# Altium integrated library Lattice CPLD ispXPLD 5000MX.IntLib: 156 symbols (part 11 of 46)
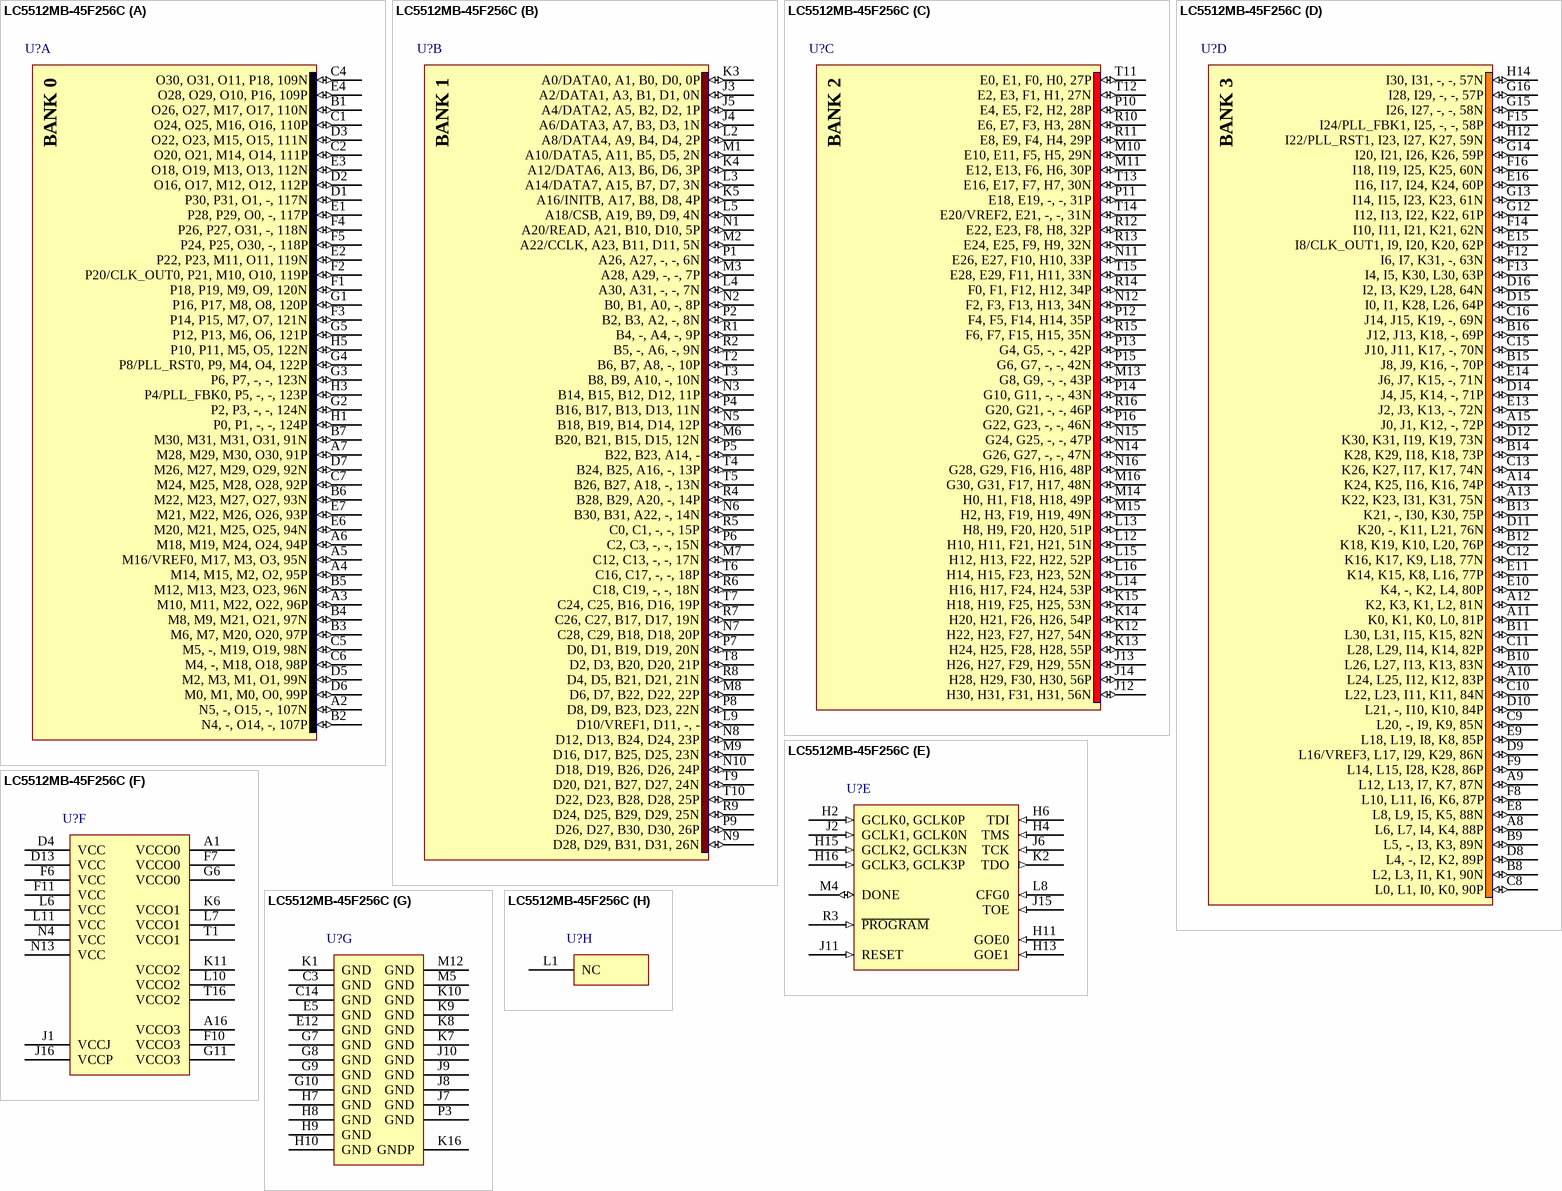
[diagram p195: symbol LC5512MB-45F256C]

## LC5512MB-45F256C
designator U?
ispXPLD 5512M eXpanded PLD: 2.5 V, 193 User I/Os, 256-Ball fpBGA, Speed 4.5 ns, Commercial Grade; Published: 17-Dec-2003; LatestRevisionDate: 30-Mar-2007; LatestRevisionNote: Banks placed in parts.; DatasheetVersion: ver12.2, Mar-2006; PackageVersion: ver01.2 Feb-2007; PackageReference: fpBGA256; Publisher: Altium Limited; PackageDescription: 256-Ball Fine Pitch Ball Grid Array (fpBGA256); Code_IPC: BGA100P16X16-256; ComponentLink1Description: Manufacturer Link; ComponentLink1URL: http://www.latticesemi.com/products/cpld/xpld/index.cfm; ComponentLink2Description: Datasheet; ComponentLink2URL: http://www.latticesemi.com/lit/docs/datasheets/cpld/5kmx.pdf
footprint fpBGA256 (BGA, 256-Leads, Body 17x17mm, Pitch 1mm)
3D model ispXPLD5512MB-fpBGA256 (256-Ball Fine Pitch Ball Grid Array (fpBGA256))
part A pins: A2 N5, -, O15, -, 107N (io) "General purpose I/O.", A3 M10, M11, M22, O22, 96P (io) "General purpose I/O.", A4 M14, M15, M2, O2, 95P (io) "General purpose I/O.", A5 M16/VREF0, M17, M3, O3, 95N (io) "Dual-purpose pin that is general I/O or Defines I/O bank reference voltage.", A6 M18, M19, M24, O24, 94P (io) "General purpose I/O.", A7 M28, M29, M30, O30, 91P (io) "General purpose I/O.", B1 O26, O27, M17, O17, 110N (io) "General purpose I/O.", B2 N4, -, O14, -, 107P (io) "General purpose I/O.", B3 M6, M7, M20, O20, 97P (io) "General purpose I/O.", B4 M8, M9, M21, O21, 97N (io) "General purpose I/O.", B5 M12, M13, M23, O23, 96N (io) "General purpose I/O.", B6 M22, M23, M27, O27, 93N (io) "General purpose I/O.", B7 M30, M31, M31, O31, 91N (io) "General purpose I/O.", C1 O24, O25, M16, O16, 110P (io) "General purpose I/O.", C2 O20, O21, M14, O14, 111P (io) "General purpose I/O.", C4 O30, O31, O11, P18, 109N (io) "General purpose I/O.", C5 M5, -, M19, O19, 98N (io) "General purpose I/O.", C6 M4, -, M18, O18, 98P (io) "General purpose I/O.", C7 M24, M25, M28, O28, 92P (io) "General purpose I/O.", D1 P30, P31, O1, -, 117N (io) "General purpose I/O.", D2 O16, O17, M12, O12, 112P (io) "General purpose I/O.", D3 O22, O23, M15, O15, 111N (io) "General purpose I/O.", D5 M2, M3, M1, O1, 99N (io) "General purpose I/O.", D6 M0, M1, M0, O0, 99P (io) "General purpose I/O.", D7 M26, M27, M29, O29, 92N (io) "General purpose I/O.", E1 P28, P29, O0, -, 117P (io) "General purpose I/O.", E2 P22, P23, M11, O11, 119N (io) "General purpose I/O.", E3 O18, O19, M13, O13, 112N (io) "General purpose I/O.", E4 O28, O29, O10, P16, 109P (io) "General purpose I/O.", E6 M20, M21, M25, O25, 94N (io) "General purpose I/O.", E7 M21, M22, M26, O26, 93P (io) "General purpose I/O.", F1 P18, P19, M9, O9, 120N (io) "General purpose I/O.", F2 P20/CLK_OUT0, P21, M10, O10, 119P (io) "Dual-purpose pin that is general I/O or Optional clock output from PLL0.", F3 P14, P15, M7, O7, 121N (io) "General purpose I/O.", F4 P26, P27, O31, -, 118N (io) "General purpose I/O.", F5 P24, P25, O30, -, 118P (io) "General purpose I/O.", G1 P16, P17, M8, O8, 120P (io) "General purpose I/O.", G2 P2, P3, -, -, 124N (io) "General purpose I/O.", G3 P6, P7, -, -, 123N (io) "General purpose I/O.", G4 P8/PLL_RST0, P9, M4, O4, 122P (io) "Dual-purpose pin that is general I/O or Optional input resets M divider in PLL0.", G5 P12, P13, M6, O6, 121P (io) "General purpose I/O.", H1 P0, P1, -, -, 124P (io) "General purpose I/O.", H3 P4/PLL_FBK0, P5, -, -, 123P (io) "Dual-purpose pin that is general I/O or Optional feeback for PLL0.", H5 P10, P11, M5, O5, 122N (io) "General purpose I/O."
part B pins: J3 A2/DATA1, A3, B1, D1, 0N (io) "Dual-purpose pin that is general I/O or sysCONFIG data pin.", J4 A6/DATA3, A7, B3, D3, 1N (io) "Dual-purpose pin that is general I/O or sysCONFIG data pin.", J5 A4/DATA2, A5, B2, D2, 1P (io) "Dual-purpose pin that is general I/O or sysCONFIG data pin.", K3 A0/DATA0, A1, B0, D0, 0P (io) "Dual-purpose pin that is general I/O or sysCONFIG data pin.", K4 A12/DATA6, A13, B6, D6, 3P (io) "Dual-purpose pin that is general I/O or sysCONFIG data pin.", K5 A16/INITB, A17, B8, D8, 4P (io) "Dual-purpose pin that is general I/O or Indicates status of configuration.", L2 A8/DATA4, A9, B4, D4, 2P (io) "Dual-purpose pin that is general I/O or sysCONFIG data pin.", L3 A14/DATA7, A15, B7, D7, 3N (io) "Dual-purpose pin that is general I/O or sysCONFIG data pin.", L4 A30, A31, -, -, 7N (io) "General purpose I/O.", L5 A18/CSB, A19, B9, D9, 4N (io) "General purpose I/O.", L9 D10/VREF1, D11, -, - (io) "Dual-purpose pin that is general I/O or Defines I/O bank reference voltage.", M1 A10/DATA5, A11, B5, D5, 2N (io) "Dual-purpose pin that is general I/O or sysCONFIG data pin.", M2 A22/CCLK, A23, B11, D11, 5N (io) "General purpose I/O.", M3 A28, A29, -, -, 7P (io) "General purpose I/O.", M6 B20, B21, B15, D15, 12N (io) "General purpose I/O.", M7 C12, C13, -, -, 17N (io) "General purpose I/O.", M8 D6, D7, B22, D22, 22P (io) "General purpose I/O.", M9 D16, D17, B25, D25, 23N (io) "General purpose I/O.", N1 A20/READ, A21, B10, D10, 5P (io) "Dual-purpose pin that is general I/O or Drive high to perform reads from sysCONFIG interface.", N2 B0, B1, A0, -, 8P (io) "General purpose I/O.", N3 B14, B15, B12, D12, 11P (io) "General purpose I/O.", N5 B18, B19, B14, D14, 12P (io) "General purpose I/O.", N6 B30, B31, A22, -, 14N (io) "General purpose I/O.", N7 C28, C29, B18, D18, 20P (io) "General purpose I/O.", N8 D12, D13, B24, D24, 23P (io) "General purpose I/O.", N9 D28, D29, B31, D31, 26N (io) "General purpose I/O.", N10 D18, D19, B26, D26, 24P (io) "General purpose I/O.", P1 A26, A27, -, -, 6N (io) "General purpose I/O.", P2 B2, B3, A2, -, 8N (io) "General purpose I/O.", P4 B16, B17, B13, D13, 11N (io) "General purpose I/O.", P5 B22, B23, A14, - (io) "General purpose I/O.", P6 C2, C3, -, -, 15N (io) "General purpose I/O.", P7 D0, D1, B19, D19, 20N (io) "General purpose I/O.", P8 D8, D9, B23, D23, 22N (io) "General purpose I/O.", P9 D26, D27, B30, D30, 26P (io) "General purpose I/O.", R1 B4, -, A4, -, 9P (io) "General purpose I/O.", R2 B5, -, A6, -, 9N (io) "General purpose I/O.", R4 B28, B29, A20, -, 14P (io) "General purpose I/O.", R5 C0, C1, -, -, 15P (io) "General purpose I/O.", R6 C18, C19, -, -, 18N (io) "General purpose I/O.", R7 C26, C27, B17, D17, 19N (io) "General purpose I/O.", R8 D4, D5, B21, D21, 21N (io) "General purpose I/O.", R9 D24, D25, B29, D29, 25N (io) "General purpose I/O.", T2 B6, B7, A8, -, 10P (io) "General purpose I/O.", T3 B8, B9, A10, -, 10N (io) "General purpose I/O.", T4 B24, B25, A16, -, 13P (io) "General purpose I/O.", T5 B26, B27, A18, -, 13N (io) "General purpose I/O.", T6 C16, C17, -, -, 18P (io) "General purpose I/O.", T7 C24, C25, B16, D16, 19P (io) "General purpose I/O.", T8 D2, D3, B20, D20, 21P (io) "General purpose I/O.", T9 D20, D21, B27, D27, 24N (io) "General purpose I/O.", T10 D22, D23, B28, D28, 25P (io) "General purpose I/O."
part C pins: J12 H30, H31, F31, H31, 56N (io) "General purpose I/O.", J13 H26, H27, F29, H29, 55N (io) "General purpose I/O.", J14 H28, H29, F30, H30, 56P (io) "General purpose I/O.", K12 H22, H23, F27, H27, 54N (io) "General purpose I/O.", K13 H24, H25, F28, H28, 55P (io) "General purpose I/O.", K14 H20, H21, F26, H26, 54P (io) "General purpose I/O.", K15 H18, H19, F25, H25, 53N (io) "General purpose I/O.", L12 H10, H11, F21, H21, 51N (io) "General purpose I/O.", L13 H8, H9, F20, H20, 51P (io) "General purpose I/O.", L14 H16, H17, F24, H24, 53P (io) "General purpose I/O.", L15 H12, H13, F22, H22, 52P (io) "General purpose I/O.", L16 H14, H15, F23, H23, 52N (io) "General purpose I/O.", M10 E10, E11, F5, H5, 29N (io) "General purpose I/O.", M11 E12, E13, F6, H6, 30P (io) "General purpose I/O.", M13 G8, G9, -, -, 43P (io) "General purpose I/O.", M14 H0, H1, F18, H18, 49P (io) "General purpose I/O.", M15 H2, H3, F19, H19, 49N (io) "General purpose I/O.", M16 G30, G31, F17, H17, 48N (io) "General purpose I/O.", N11 E26, E27, F10, H10, 33P (io) "General purpose I/O.", N12 F2, F3, F13, H13, 34N (io) "General purpose I/O.", N14 G26, G27, -, -, 47N (io) "General purpose I/O.", N15 G24, G25, -, -, 47P (io) "General purpose I/O.", N16 G28, G29, F16, H16, 48P (io) "General purpose I/O.", P10 E4, E5, F2, H2, 28P (io) "General purpose I/O.", P11 E18, E19, -, -, 31P (io) "General purpose I/O.", P12 F4, F5, F14, H14, 35P (io) "General purpose I/O.", P13 G4, G5, -, -, 42P (io) "General purpose I/O.", P14 G10, G11, -, -, 43N (io) "General purpose I/O.", P15 G6, G7, -, -, 42N (io) "General purpose I/O.", P16 G22, G23, -, -, 46N (io) "General purpose I/O.", R10 E6, E7, F3, H3, 28N (io) "General purpose I/O.", R11 E8, E9, F4, H4, 29P (io) "General purpose I/O.", R12 E22, E23, F8, H8, 32P (io) "General purpose I/O.", R13 E24, E25, F9, H9, 32N (io) "General purpose I/O.", R14 F0, F1, F12, H12, 34P (io) "General purpose I/O.", R15 F6, F7, F15, H15, 35N (io) "General purpose I/O.", R16 G20, G21, -, -, 46P (io) "General purpose I/O.", T11 E0, E1, F0, H0, 27P (io) "General purpose I/O.", T12 E2, E3, F1, H1, 27N (io) "General purpose I/O.", T13 E16, E17, F7, H7, 30N (io) "General purpose I/O.", T14 E20/VREF2, E21, -, -, 31N (io) "Dual-purpose pin that is general I/O or Defines I/O bank reference voltage.", T15 E28, E29, F11, H11, 33N (io) "General purpose I/O."
part D pins: A8 L6, L7, I4, K4, 88P (io) "General purpose I/O.", A9 L12, L13, I7, K7, 87N (io) "General purpose I/O.", A10 L24, L25, I12, K12, 83P (io) "General purpose I/O.", A11 K0, K1, K0, L0, 81P (io) "General purpose I/O.", A12 K2, K3, K1, L2, 81N (io) "General purpose I/O.", A13 K22, K23, I31, K31, 75N (io) "General purpose I/O.", A14 K24, K25, I16, K16, 74P (io) "General purpose I/O.", A15 J0, J1, K12, -, 72P (io) "General purpose I/O.", B8 L2, L3, I1, K1, 90N (io) "General purpose I/O.", B9 L5, -, I3, K3, 89N (io) "General purpose I/O.", B10 L26, L27, I13, K13, 83N (io) "General purpose I/O.", B11 L30, L31, I15, K15, 82N (io) "General purpose I/O.", B12 K18, K19, K10, L20, 76P (io) "General purpose I/O.", B13 K21, -, I30, K30, 75P (io) "General purpose I/O.", B14 K28, K29, I18, K18, 73P (io) "General purpose I/O.", B15 J8, J9, K16, -, 70P (io) "General purpose I/O.", B16 J12, J13, K18, -, 69P (io) "General purpose I/O.", C8 L0, L1, I0, K0, 90P (io) "General purpose I/O.", C9 L20, -, I9, K9, 85N (io) "General purpose I/O.", C10 L22, L23, I11, K11, 84N (io) "General purpose I/O.", C11 L28, L29, I14, K14, 82P (io) "General purpose I/O.", C12 K16, K17, K9, L18, 77N (io) "General purpose I/O.", C13 K26, K27, I17, K17, 74N (io) "General purpose I/O.", C15 J10, J11, K17, -, 70N (io) "General purpose I/O.", C16 J14, J15, K19, -, 69N (io) "General purpose I/O.", D8 L4, -, I2, K2, 89P (io) "General purpose I/O.", D9 L16/VREF3, L17, I29, K29, 86N (io) "Dual-purpose pin that is general I/O or Defines I/O bank reference voltage.", D10 L21, -, I10, K10, 84P (io) "General purpose I/O.", D11 K20, -, K11, L21, 76N (io) "General purpose I/O.", D12 K30, K31, I19, K19, 73N (io) "General purpose I/O.", D14 J4, J5, K14, -, 71P (io) "General purpose I/O.", D15 I0, I1, K28, L26, 64P (io) "General purpose I/O.", D16 I2, I3, K29, L28, 64N (io) "General purpose I/O.", E8 L8, L9, I5, K5, 88N (io) "General purpose I/O.", E9 L18, L19, I8, K8, 85P (io) "General purpose I/O.", E10 K4, -, K2, L4, 80P (io) "General purpose I/O.", E11 K14, K15, K8, L16, 77P (io) "General purpose I/O.", E13 J2, J3, K13, -, 72N (io) "General purpose I/O.", E14 J6, J7, K15, -, 71N (io) "General purpose I/O.", E15 I8/CLK_OUT1, I9, I20, K20, 62P (io) "Dual-purpose pin that is general I/O or Optional clock output from PLL1.", E16 I16, I17, I24, K24, 60P (io) "General purpose I/O.", F8 L10, L11, I6, K6, 87P (io) "General purpose I/O.", F9 L14, L15, I28, K28, 86P (io) "General purpose I/O.", F12 I6, I7, K31, -, 63N (io) "General purpose I/O.", F13 I4, I5, K30, L30, 63P (io) "General purpose I/O.", F14 I10, I11, I21, K21, 62N (io) "General purpose I/O.", F15 I24/PLL_FBK1, I25, -, -, 58P (io) "Dual-purpose pin that is general I/O or Optional feeback for PLL1.", F16 I18, I19, I25, K25, 60N (io) "General purpose I/O.", G12 I12, I13, I22, K22, 61P (io) "General purpose I/O.", G13 I14, I15, I23, K23, 61N (io) "General purpose I/O.", G14 I20, I21, I26, K26, 59P (io) "General purpose I/O.", G15 I26, I27, -, -, 58N (io) "General purpose I/O.", G16 I28, I29, -, -, 57P (io) "General purpose I/O.", H12 I22/PLL_RST1, I23, I27, K27, 59N (io) "Dual-purpose pin that is general I/O or Optional input resets M divider in PLL1.", H14 I30, I31, -, -, 57N (io) "General purpose I/O."
part E pins: H2 GCLK0, GCLK0P (in) "Global clock/clock enable input.", H4 TMS (in) "Test Mode Select Input to control 1149.1 state machine.", H6 TDI (in) "Test Data Input. Loads data into device using 1149.1 state machine.", H11 GOE0 (in) "Global output enable input.", H13 GOE1 (in) "Global output enable input.", H15 GCLK2, GCLK3N (in) "Global clock/clock enable input.", H16 GCLK3, GCLK3P (in) "Global clock/clock enable input.", J2 GCLK1, GCLK0N (in) "Global clock/clock enable input.", J6 TCK (in) "Test Clock Input for 1149.1 state machine.", J11 RESET (in) "Resets all registers.", J15 TOE (in) "Test Output Enable. Tristates all I/O pins when driven low.", K2 TDO (out) "Test Data Output. Shifts data out of device using 1149.1.", L8 CFG0 (in) "Clock for sysCONFIG interface. Reads & writes occur on rising edge of clock.", M4 DONE (io) "Indicates configuration status.", R3 ~{PROGRAM} (in) "Controls SRAM programming. Hold high for normal operation. Toggle low to reload SRAM from E2 memory."
part F pins: A1 VCCO0 (power) "Power supply for I/O bank.", A16 VCCO3 (power) "Power supply for I/O bank.", D4 VCC (power) "Power supply for core logic.", D13 VCC (power) "Power supply for core logic.", F6 VCC (power) "Power supply for core logic.", F7 VCCO0 (power) "Power supply for I/O bank.", F10 VCCO3 (power) "Power supply for I/O bank.", F11 VCC (power) "Power supply for core logic.", G6 VCCO0 (power) "Power supply for I/O bank.", G11 VCCO3 (power) "Power supply for I/O bank.", J1 VCCJ (power) "Power supply for IEEE1149.1 interface.", J16 VCCP (power) "Power Supply for PLL.", K6 VCCO1 (power) "Power supply for I/O bank.", K11 VCCO2 (power) "Power supply for I/O bank.", L6 VCC (power) "Power supply for core logic.", L7 VCCO1 (power) "Power supply for I/O bank.", L10 VCCO2 (power) "Power supply for I/O bank.", L11 VCC (power) "Power supply for core logic.", N4 VCC (power) "Power supply for core logic.", N13 VCC (power) "Power supply for core logic.", T1 VCCO1 (power) "Power supply for I/O bank.", T16 VCCO2 (power) "Power supply for I/O bank."
part G pins: C3 GND (power) "Ground.", C14 GND (power) "Ground.", E5 GND (power) "Ground.", E12 GND (power) "Ground.", G7 GND (power) "Ground.", G8 GND (power) "Ground.", G9 GND (power) "Ground.", G10 GND (power) "Ground.", H7 GND (power) "Ground.", H8 GND (power) "Ground.", H9 GND (power) "Ground.", H10 GND (power) "Ground.", J7 GND (power) "Ground.", J8 GND (power) "Ground.", J9 GND (power) "Ground.", J10 GND (power) "Ground.", K1 GND (power) "Ground.", K7 GND (power) "Ground.", K8 GND (power) "Ground.", K9 GND (power) "Ground.", K10 GND (power) "Ground.", K16 GNDP (power) "Ground for PLL.", M5 GND (power) "Ground.", M12 GND (power) "Ground.", P3 GND (power) "Ground."
part H pins: L1 NC "Not Connected."
part A text: BANK 0
part B text: BANK 1
part C text: BANK 2
part D text: BANK 3

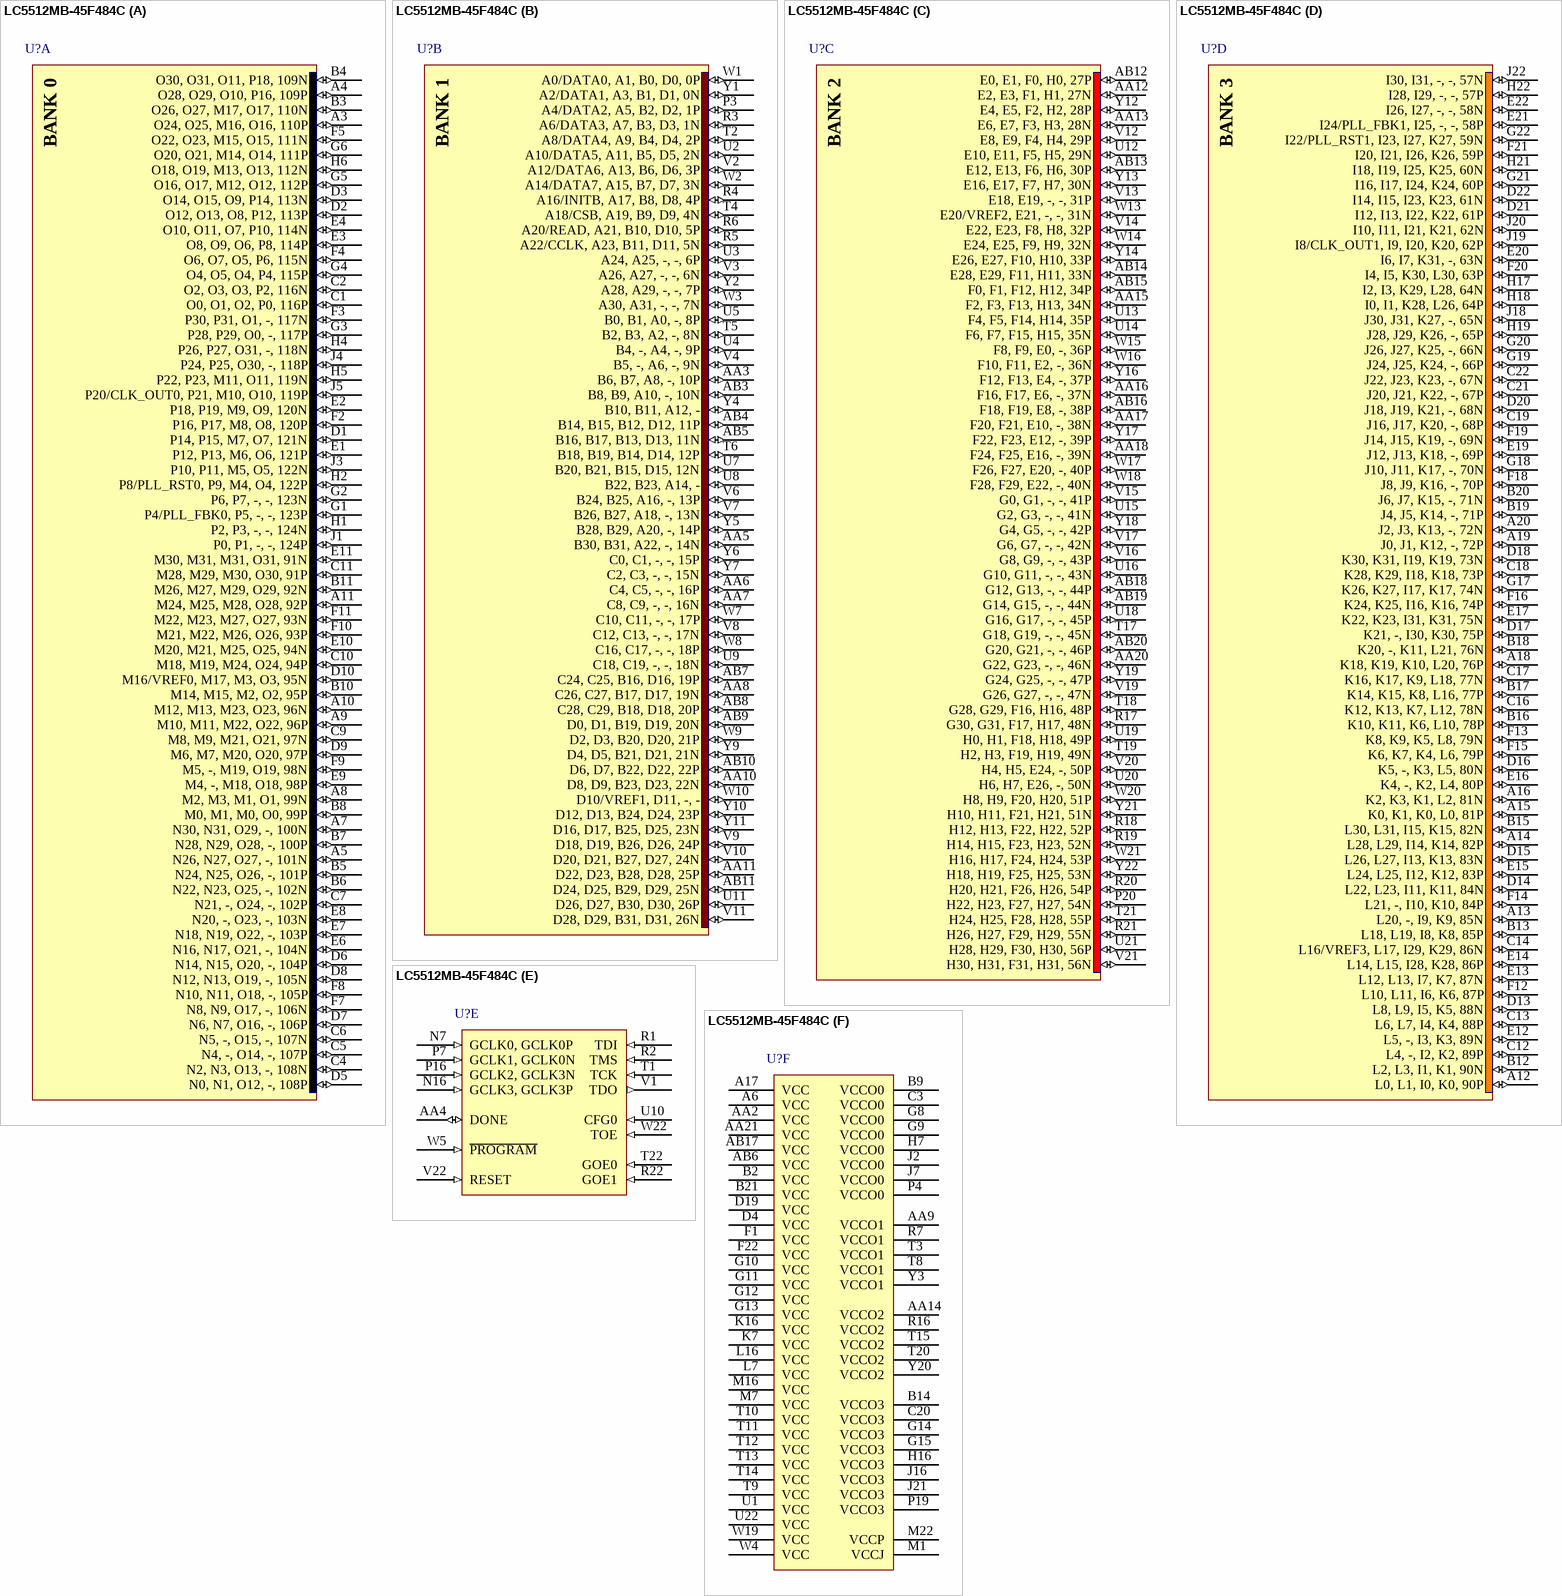
[diagram p25: symbol LC5512MB-45F484C]

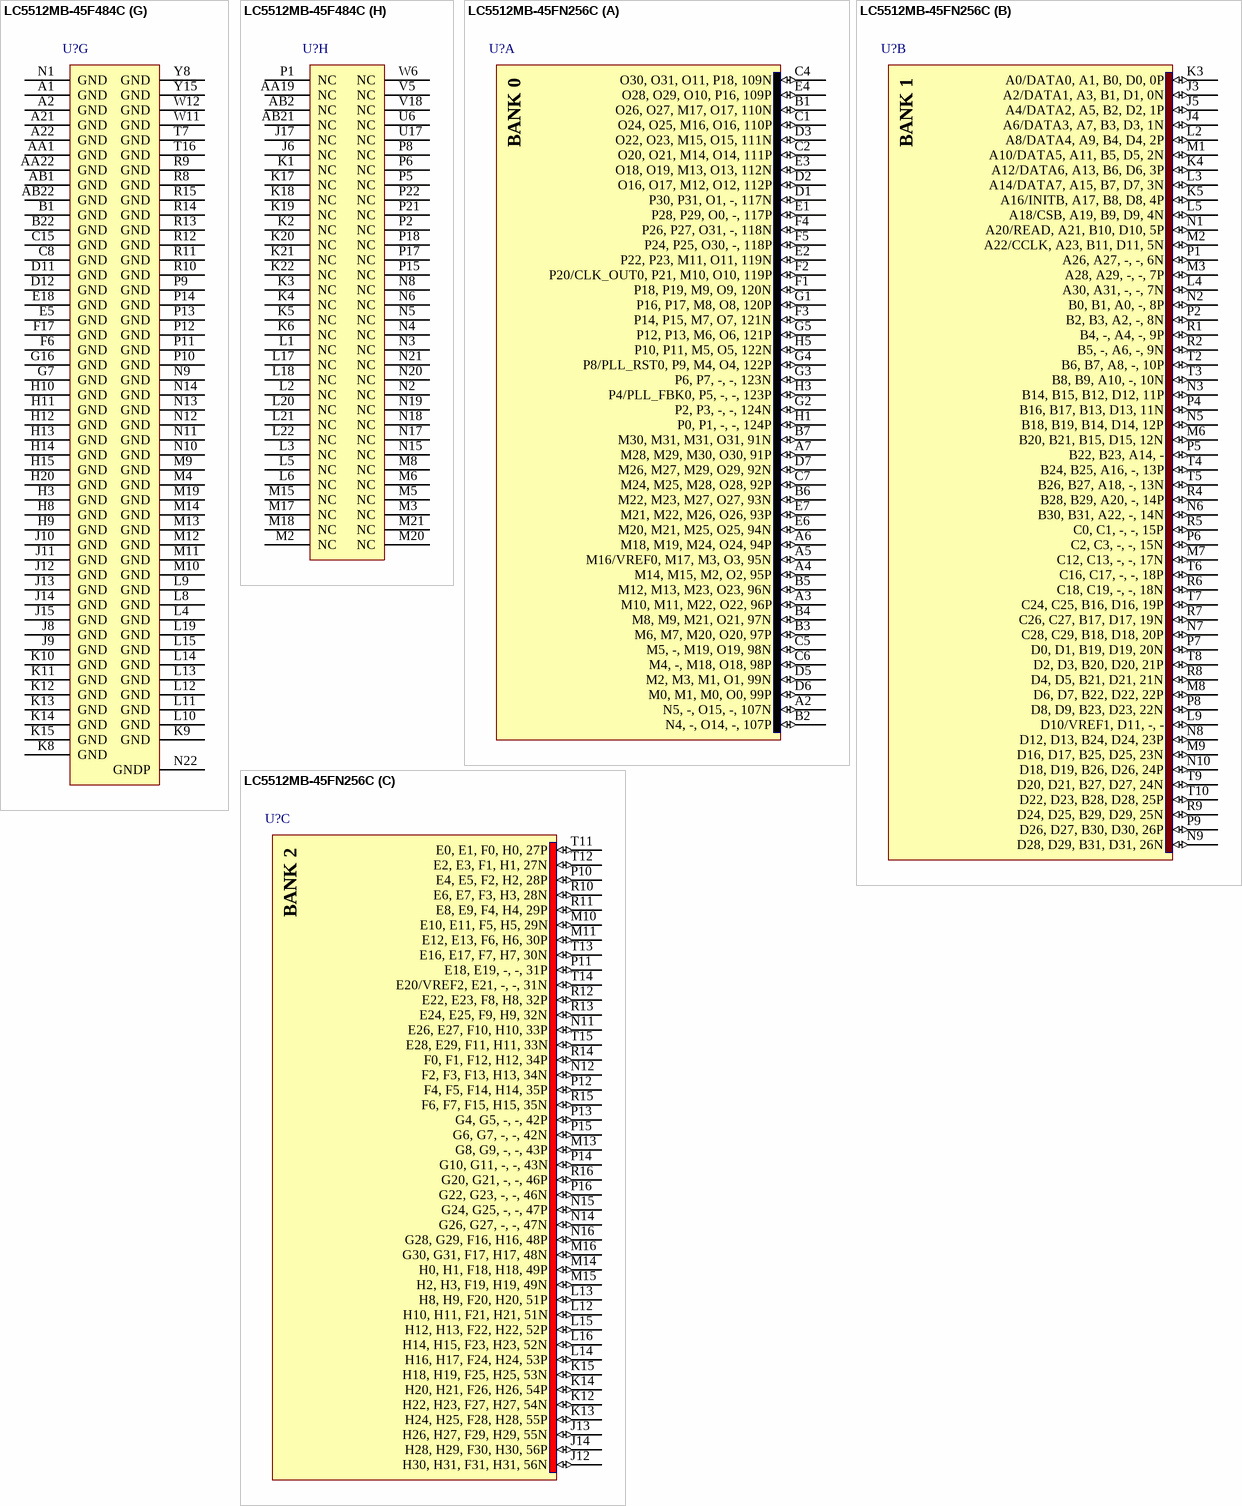
[diagram p26: symbols LC5512MB-45F484C to LC5512MB-45FN256C]

## LC5512MB-45F484C
designator U?
ispXPLD 5512M eXpanded PLD: 2.5 V, 253 User I/Os, 484-Ball fpBGA, Speed 4.5 ns, Commercial Grade; Published: 17-Dec-2003; LatestRevisionDate: 30-Mar-2007; LatestRevisionNote: Banks placed in parts.; DatasheetVersion: ver12.2, Mar-2006; PackageVersion: ver01.2 Feb-2007; PackageReference: fpBGA484; Publisher: Altium Limited; PackageDescription: 484-Ball Fine Pitch Ball Grid Array (fpBGA484); Code_IPC: BGA100P22X22-484; ComponentLink1Description: Manufacturer Link; ComponentLink1URL: http://www.latticesemi.com/products/cpld/xpld/index.cfm; ComponentLink2Description: Datasheet; ComponentLink2URL: http://www.latticesemi.com/lit/docs/datasheets/cpld/5kmx.pdf
footprint fpBGA484 (BGA, 484-Leads, Body 23x23mm, Pitch 1mm)
3D model ispXPLD5512MB-fpBGA484 (484-Ball Fine Pitch Ball Grid Array (fpBGA484))
part A pins: A3 O24, O25, M16, O16, 110P (io) "General purpose I/O.", A4 O28, O29, O10, P16, 109P (io) "General purpose I/O.", A5 N26, N27, O27, -, 101N (io) "General purpose I/O.", A7 N30, N31, O29, -, 100N (io) "General purpose I/O.", A8 M2, M3, M1, O1, 99N (io) "General purpose I/O.", A9 M10, M11, M22, O22, 96P (io) "General purpose I/O.", A10 M12, M13, M23, O23, 96N (io) "General purpose I/O.", A11 M24, M25, M28, O28, 92P (io) "General purpose I/O.", B3 O26, O27, M17, O17, 110N (io) "General purpose I/O.", B4 O30, O31, O11, P18, 109N (io) "General purpose I/O.", B5 N24, N25, O26, -, 101P (io) "General purpose I/O.", B6 N22, N23, O25, -, 102N (io) "General purpose I/O.", B7 N28, N29, O28, -, 100P (io) "General purpose I/O.", B8 M0, M1, M0, O0, 99P (io) "General purpose I/O.", B10 M14, M15, M2, O2, 95P (io) "General purpose I/O.", B11 M26, M27, M29, O29, 92N (io) "General purpose I/O.", C1 O0, O1, O2, P0, 116P (io) "General purpose I/O.", C2 O2, O3, O3, P2, 116N (io) "General purpose I/O.", C4 N2, N3, O13, -, 108N (io) "General purpose I/O.", C5 N4, -, O14, -, 107P (io) "General purpose I/O.", C6 N5, -, O15, -, 107N (io) "General purpose I/O.", C7 N21, -, O24, -, 102P (io) "General purpose I/O.", C9 M8, M9, M21, O21, 97N (io) "General purpose I/O.", C10 M18, M19, M24, O24, 94P (io) "General purpose I/O.", C11 M28, M29, M30, O30, 91P (io) "General purpose I/O.", D1 P14, P15, M7, O7, 121N (io) "General purpose I/O.", D2 O12, O13, O8, P12, 113P (io) "General purpose I/O.", D3 O14, O15, O9, P14, 113N (io) "General purpose I/O.", D5 N0, N1, O12, -, 108P (io) "General purpose I/O.", D6 N14, N15, O20, -, 104P (io) "General purpose I/O.", D7 N6, N7, O16, -, 106P (io) "General purpose I/O.", D8 N12, N13, O19, -, 105N (io) "General purpose I/O.", D9 M6, M7, M20, O20, 97P (io) "General purpose I/O.", D10 M16/VREF0, M17, M3, O3, 95N (io) "Dual-purpose pin that is general I/O or Defines I/O bank reference voltage.", E1 P12, P13, M6, O6, 121P (io) "General purpose I/O.", E2 P18, P19, M9, O9, 120N (io) "General purpose I/O.", E3 O8, O9, O6, P8, 114P (io) "General purpose I/O.", E4 O10, O11, O7, P10, 114N (io) "General purpose I/O.", E6 N16, N17, O21, -, 104N (io) "General purpose I/O.", E7 N18, N19, O22, -, 103P (io) "General purpose I/O.", E8 N20, -, O23, -, 103N (io) "General purpose I/O.", E9 M4, -, M18, O18, 98P (io) "General purpose I/O.", E10 M20, M21, M25, O25, 94N (io) "General purpose I/O.", E11 M30, M31, M31, O31, 91N (io) "General purpose I/O.", F2 P16, P17, M8, O8, 120P (io) "General purpose I/O.", F3 P30, P31, O1, -, 117N (io) "General purpose I/O.", F4 O6, O7, O5, P6, 115N (io) "General purpose I/O.", F5 O22, O23, M15, O15, 111N (io) "General purpose I/O.", F7 N8, N9, O17, -, 106N (io) "General purpose I/O.", F8 N10, N11, O18, -, 105P (io) "General purpose I/O.", F9 M5, -, M19, O19, 98N (io) "General purpose I/O.", F10 M21, M22, M26, O26, 93P (io) "General purpose I/O.", F11 M22, M23, M27, O27, 93N (io) "General purpose I/O.", G1 P4/PLL_FBK0, P5, -, -, 123P (io) "Dual-purpose pin that is general I/O or Optional feeback for PLL0.", G2 P6, P7, -, -, 123N (io) "General purpose I/O.", G3 P28, P29, O0, -, 117P (io) "General purpose I/O.", G4 O4, O5, O4, P4, 115P (io) "General purpose I/O.", G5 O16, O17, M12, O12, 112P (io) "General purpose I/O.", G6 O20, O21, M14, O14, 111P (io) "General purpose I/O.", H1 P2, P3, -, -, 124N (io) "General purpose I/O.", H2 P8/PLL_RST0, P9, M4, O4, 122P (io) "Dual-purpose pin that is general I/O or Optional input resets M divider in PLL0.", H4 P26, P27, O31, -, 118N (io) "General purpose I/O.", H5 P22, P23, M11, O11, 119N (io) "General purpose I/O.", H6 O18, O19, M13, O13, 112N (io) "General purpose I/O.", J1 P0, P1, -, -, 124P (io) "General purpose I/O.", J3 P10, P11, M5, O5, 122N (io) "General purpose I/O.", J4 P24, P25, O30, -, 118P (io) "General purpose I/O.", J5 P20/CLK_OUT0, P21, M10, O10, 119P (io) "Dual-purpose pin that is general I/O or Optional clock output from PLL0."
part B pins: AA3 B6, B7, A8, -, 10P (io) "General purpose I/O.", AA5 B30, B31, A22, -, 14N (io) "General purpose I/O.", AA6 C4, C5, -, -, 16P (io) "General purpose I/O.", AA7 C8, C9, -, -, 16N (io) "General purpose I/O.", AA8 C26, C27, B17, D17, 19N (io) "General purpose I/O.", AA10 D8, D9, B23, D23, 22N (io) "General purpose I/O.", AA11 D22, D23, B28, D28, 25P (io) "General purpose I/O.", AB3 B8, B9, A10, -, 10N (io) "General purpose I/O.", AB4 B14, B15, B12, D12, 11P (io) "General purpose I/O.", AB5 B16, B17, B13, D13, 11N (io) "General purpose I/O.", AB7 C24, C25, B16, D16, 19P (io) "General purpose I/O.", AB8 C28, C29, B18, D18, 20P (io) "General purpose I/O.", AB9 D0, D1, B19, D19, 20N (io) "General purpose I/O.", AB10 D6, D7, B22, D22, 22P (io) "General purpose I/O.", AB11 D24, D25, B29, D29, 25N (io) "General purpose I/O.", P3 A4/DATA2, A5, B2, D2, 1P (io) "Dual-purpose pin that is general I/O or sysCONFIG data pin.", R3 A6/DATA3, A7, B3, D3, 1N (io) "Dual-purpose pin that is general I/O or sysCONFIG data pin.", R4 A16/INITB, A17, B8, D8, 4P (io) "Dual-purpose pin that is general I/O or Indicates status of configuration.", R5 A22/CCLK, A23, B11, D11, 5N (io) "General purpose I/O.", R6 A20/READ, A21, B10, D10, 5P (io) "Dual-purpose pin that is general I/O or Drive high to perform reads from sysCONFIG interface.", T2 A8/DATA4, A9, B4, D4, 2P (io) "Dual-purpose pin that is general I/O or sysCONFIG data pin.", T4 A18/CSB, A19, B9, D9, 4N (io) "General purpose I/O.", T5 B2, B3, A2, -, 8N (io) "General purpose I/O.", T6 B18, B19, B14, D14, 12P (io) "General purpose I/O.", U2 A10/DATA5, A11, B5, D5, 2N (io) "Dual-purpose pin that is general I/O or sysCONFIG data pin.", U3 A24, A25, -, -, 6P (io) "General purpose I/O.", U4 B4, -, A4, -, 9P (io) "General purpose I/O.", U5 B0, B1, A0, -, 8P (io) "General purpose I/O.", U7 B20, B21, B15, D15, 12N (io) "General purpose I/O.", U8 B22, B23, A14, - (io) "General purpose I/O.", U9 C18, C19, -, -, 18N (io) "General purpose I/O.", U11 D26, D27, B30, D30, 26P (io) "General purpose I/O.", V2 A12/DATA6, A13, B6, D6, 3P (io) "Dual-purpose pin that is general I/O or sysCONFIG data pin.", V3 A26, A27, -, -, 6N (io) "General purpose I/O.", V4 B5, -, A6, -, 9N (io) "General purpose I/O.", V6 B24, B25, A16, -, 13P (io) "General purpose I/O.", V7 B26, B27, A18, -, 13N (io) "General purpose I/O.", V8 C12, C13, -, -, 17N (io) "General purpose I/O.", V9 D18, D19, B26, D26, 24P (io) "General purpose I/O.", V10 D20, D21, B27, D27, 24N (io) "General purpose I/O.", V11 D28, D29, B31, D31, 26N (io) "General purpose I/O.", W1 A0/DATA0, A1, B0, D0, 0P (io) "Dual-purpose pin that is general I/O or sysCONFIG data pin.", W2 A14/DATA7, A15, B7, D7, 3N (io) "Dual-purpose pin that is general I/O or sysCONFIG data pin.", W3 A30, A31, -, -, 7N (io) "General purpose I/O.", W7 C10, C11, -, -, 17P (io) "General purpose I/O.", W8 C16, C17, -, -, 18P (io) "General purpose I/O.", W9 D2, D3, B20, D20, 21P (io) "General purpose I/O.", W10 D10/VREF1, D11, -, - (io) "Dual-purpose pin that is general I/O or Defines I/O bank reference voltage.", Y1 A2/DATA1, A3, B1, D1, 0N (io) "Dual-purpose pin that is general I/O or sysCONFIG data pin.", Y2 A28, A29, -, -, 7P (io) "General purpose I/O.", Y4 B10, B11, A12, - (io) "General purpose I/O.", Y5 B28, B29, A20, -, 14P (io) "General purpose I/O.", Y6 C0, C1, -, -, 15P (io) "General purpose I/O.", Y7 C2, C3, -, -, 15N (io) "General purpose I/O.", Y9 D4, D5, B21, D21, 21N (io) "General purpose I/O.", Y10 D12, D13, B24, D24, 23P (io) "General purpose I/O.", Y11 D16, D17, B25, D25, 23N (io) "General purpose I/O."
part C pins: AA12 E2, E3, F1, H1, 27N (io) "General purpose I/O.", AA13 E6, E7, F3, H3, 28N (io) "General purpose I/O.", AA15 F2, F3, F13, H13, 34N (io) "General purpose I/O.", AA16 F16, F17, E6, -, 37N (io) "General purpose I/O.", AA17 F20, F21, E10, -, 38N (io) "General purpose I/O.", AA18 F24, F25, E16, -, 39N (io) "General purpose I/O.", AA20 G22, G23, -, -, 46N (io) "General purpose I/O.", AB12 E0, E1, F0, H0, 27P (io) "General purpose I/O.", AB13 E12, E13, F6, H6, 30P (io) "General purpose I/O.", AB14 E28, E29, F11, H11, 33N (io) "General purpose I/O.", AB15 F0, F1, F12, H12, 34P (io) "General purpose I/O.", AB16 F18, F19, E8, -, 38P (io) "General purpose I/O.", AB18 G12, G13, -, -, 44P (io) "General purpose I/O.", AB19 G14, G15, -, -, 44N (io) "General purpose I/O.", AB20 G20, G21, -, -, 46P (io) "General purpose I/O.", P20 H22, H23, F27, H27, 54N (io) "General purpose I/O.", R17 G30, G31, F17, H17, 48N (io) "General purpose I/O.", R18 H12, H13, F22, H22, 52P (io) "General purpose I/O.", R19 H14, H15, F23, H23, 52N (io) "General purpose I/O.", R20 H20, H21, F26, H26, 54P (io) "General purpose I/O.", R21 H26, H27, F29, H29, 55N (io) "General purpose I/O.", T17 G18, G19, -, -, 45N (io) "General purpose I/O.", T18 G28, G29, F16, H16, 48P (io) "General purpose I/O.", T19 H2, H3, F19, H19, 49N (io) "General purpose I/O.", T21 H24, H25, F28, H28, 55P (io) "General purpose I/O.", U12 E10, E11, F5, H5, 29N (io) "General purpose I/O.", U13 F4, F5, F14, H14, 35P (io) "General purpose I/O.", U14 F6, F7, F15, H15, 35N (io) "General purpose I/O.", U15 G2, G3, -, -, 41N (io) "General purpose I/O.", U16 G10, G11, -, -, 43N (io) "General purpose I/O.", U18 G16, G17, -, -, 45P (io) "General purpose I/O.", U19 H0, H1, F18, H18, 49P (io) "General purpose I/O.", U20 H6, H7, E26, -, 50N (io) "General purpose I/O.", U21 H28, H29, F30, H30, 56P (io) "General purpose I/O.", V12 E8, E9, F4, H4, 29P (io) "General purpose I/O.", V13 E18, E19, -, -, 31P (io) "General purpose I/O.", V14 E22, E23, F8, H8, 32P (io) "General purpose I/O.", V15 G0, G1, -, -, 41P (io) "General purpose I/O.", V16 G8, G9, -, -, 43P (io) "General purpose I/O.", V17 G6, G7, -, -, 42N (io) "General purpose I/O.", V19 G26, G27, -, -, 47N (io) "General purpose I/O.", V20 H4, H5, E24, -, 50P (io) "General purpose I/O.", V21 H30, H31, F31, H31, 56N (io) "General purpose I/O.", W13 E20/VREF2, E21, -, -, 31N (io) "Dual-purpose pin that is general I/O or Defines I/O bank reference voltage.", W14 E24, E25, F9, H9, 32N (io) "General purpose I/O.", W15 F8, F9, E0, -, 36P (io) "General purpose I/O.", W16 F10, F11, E2, -, 36N (io) "General purpose I/O.", W17 F26, F27, E20, -, 40P (io) "General purpose I/O.", W18 F28, F29, E22, -, 40N (io) "General purpose I/O.", W20 H8, H9, F20, H20, 51P (io) "General purpose I/O.", W21 H16, H17, F24, H24, 53P (io) "General purpose I/O.", Y12 E4, E5, F2, H2, 28P (io) "General purpose I/O.", Y13 E16, E17, F7, H7, 30N (io) "General purpose I/O.", Y14 E26, E27, F10, H10, 33P (io) "General purpose I/O.", Y16 F12, F13, E4, -, 37P (io) "General purpose I/O.", Y17 F22, F23, E12, -, 39P (io) "General purpose I/O.", Y18 G4, G5, -, -, 42P (io) "General purpose I/O.", Y19 G24, G25, -, -, 47P (io) "General purpose I/O.", Y21 H10, H11, F21, H21, 51N (io) "General purpose I/O.", Y22 H18, H19, F25, H25, 53N (io) "General purpose I/O."
part D pins: A12 L0, L1, I0, K0, 90P (io) "General purpose I/O.", A13 L20, -, I9, K9, 85N (io) "General purpose I/O.", A14 L28, L29, I14, K14, 82P (io) "General purpose I/O.", A15 K0, K1, K0, L0, 81P (io) "General purpose I/O.", A16 K2, K3, K1, L2, 81N (io) "General purpose I/O.", A18 K18, K19, K10, L20, 76P (io) "General purpose I/O.", A19 J0, J1, K12, -, 72P (io) "General purpose I/O.", A20 J2, J3, K13, -, 72N (io) "General purpose I/O.", B12 L2, L3, I1, K1, 90N (io) "General purpose I/O.", B13 L18, L19, I8, K8, 85P (io) "General purpose I/O.", B15 L30, L31, I15, K15, 82N (io) "General purpose I/O.", B16 K10, K11, K6, L10, 78P (io) "General purpose I/O.", B17 K14, K15, K8, L16, 77P (io) "General purpose I/O.", B18 K20, -, K11, L21, 76N (io) "General purpose I/O.", B19 J4, J5, K14, -, 71P (io) "General purpose I/O.", B20 J6, J7, K15, -, 71N (io) "General purpose I/O.", C12 L4, -, I2, K2, 89P (io) "General purpose I/O.", C13 L6, L7, I4, K4, 88P (io) "General purpose I/O.", C14 L16/VREF3, L17, I29, K29, 86N (io) "Dual-purpose pin that is general I/O or Defines I/O bank reference voltage.", C16 K12, K13, K7, L12, 78N (io) "General purpose I/O.", C17 K16, K17, K9, L18, 77N (io) "General purpose I/O.", C18 K28, K29, I18, K18, 73P (io) "General purpose I/O.", C19 J16, J17, K20, -, 68P (io) "General purpose I/O.", C21 J20, J21, K22, -, 67P (io) "General purpose I/O.", C22 J22, J23, K23, -, 67N (io) "General purpose I/O.", D13 L8, L9, I5, K5, 88N (io) "General purpose I/O.", D14 L22, L23, I11, K11, 84N (io) "General purpose I/O.", D15 L26, L27, I13, K13, 83N (io) "General purpose I/O.", D16 K5, -, K3, L5, 80N (io) "General purpose I/O.", D17 K21, -, I30, K30, 75P (io) "General purpose I/O.", D18 K30, K31, I19, K19, 73N (io) "General purpose I/O.", D20 J18, J19, K21, -, 68N (io) "General purpose I/O.", D21 I12, I13, I22, K22, 61P (io) "General purpose I/O.", D22 I14, I15, I23, K23, 61N (io) "General purpose I/O.", E12 L5, -, I3, K3, 89N (io) "General purpose I/O.", E13 L12, L13, I7, K7, 87N (io) "General purpose I/O.", E14 L14, L15, I28, K28, 86P (io) "General purpose I/O.", E15 L24, L25, I12, K12, 83P (io) "General purpose I/O.", E16 K4, -, K2, L4, 80P (io) "General purpose I/O.", E17 K22, K23, I31, K31, 75N (io) "General purpose I/O.", E19 J12, J13, K18, -, 69P (io) "General purpose I/O.", E20 I6, I7, K31, -, 63N (io) "General purpose I/O.", E21 I24/PLL_FBK1, I25, -, -, 58P (io) "Dual-purpose pin that is general I/O or Optional feeback for PLL1.", E22 I26, I27, -, -, 58N (io) "General purpose I/O.", F12 L10, L11, I6, K6, 87P (io) "General purpose I/O.", F13 K8, K9, K5, L8, 79N (io) "General purpose I/O.", F14 L21, -, I10, K10, 84P (io) "General purpose I/O.", F15 K6, K7, K4, L6, 79P (io) "General purpose I/O.", F16 K24, K25, I16, K16, 74P (io) "General purpose I/O.", F18 J8, J9, K16, -, 70P (io) "General purpose I/O.", F19 J14, J15, K19, -, 69N (io) "General purpose I/O.", F20 I4, I5, K30, L30, 63P (io) "General purpose I/O.", F21 I20, I21, I26, K26, 59P (io) "General purpose I/O.", G17 K26, K27, I17, K17, 74N (io) "General purpose I/O.", G18 J10, J11, K17, -, 70N (io) "General purpose I/O.", G19 J24, J25, K24, -, 66P (io) "General purpose I/O.", G20 J26, J27, K25, -, 66N (io) "General purpose I/O.", G21 I16, I17, I24, K24, 60P (io) "General purpose I/O.", G22 I22/PLL_RST1, I23, I27, K27, 59N (io) "Dual-purpose pin that is general I/O or Optional input resets M divider in PLL1.", H17 I2, I3, K29, L28, 64N (io) "General purpose I/O.", H18 I0, I1, K28, L26, 64P (io) "General purpose I/O.", H19 J28, J29, K26, -, 65P (io) "General purpose I/O.", H21 I18, I19, I25, K25, 60N (io) "General purpose I/O.", H22 I28, I29, -, -, 57P (io) "General purpose I/O.", J18 J30, J31, K27, -, 65N (io) "General purpose I/O.", J19 I8/CLK_OUT1, I9, I20, K20, 62P (io) "Dual-purpose pin that is general I/O or Optional clock output from PLL1.", J20 I10, I11, I21, K21, 62N (io) "General purpose I/O.", J22 I30, I31, -, -, 57N (io) "General purpose I/O."
part E pins: AA4 DONE (io) "Indicates configuration status.", N7 GCLK0, GCLK0P (in) "Global clock/clock enable input.", N16 GCLK3, GCLK3P (in) "Global clock/clock enable input.", P7 GCLK1, GCLK0N (in) "Global clock/clock enable input.", P16 GCLK2, GCLK3N (in) "Global clock/clock enable input.", R1 TDI (in) "Test Data Input. Loads data into device using 1149.1 state machine.", R2 TMS (in) "Test Mode Select Input to control 1149.1 state machine.", R22 GOE1 (in) "Global output enable input.", T1 TCK (in) "Test Clock Input for 1149.1 state machine.", T22 GOE0 (in) "Global output enable input.", U10 CFG0 (in) "Clock for sysCONFIG interface. Reads & writes occur on rising edge of clock.", V1 TDO (out) "Test Data Output. Shifts data out of device using 1149.1.", V22 RESET (in) "Resets all registers.", W5 ~{PROGRAM} (in) "Controls SRAM programming. Hold high for normal operation. Toggle low to reload SRAM from E2 memory.", W22 TOE (in) "Test Output Enable. Tristates all I/O pins when driven low."
part F pins: A6 VCC (power) "Power supply for core logic.", A17 VCC (power) "Power supply for core logic.", AA2 VCC (power) "Power supply for core logic.", AA9 VCCO1 (power) "Power supply for I/O bank.", AA14 VCCO2 (power) "Power supply for I/O bank.", AA21 VCC (power) "Power supply for core logic.", AB6 VCC (power) "Power supply for core logic.", AB17 VCC (power) "Power supply for core logic.", B2 VCC (power) "Power supply for core logic.", B9 VCCO0 (power) "Power supply for I/O bank.", B14 VCCO3 (power) "Power supply for I/O bank.", B21 VCC (power) "Power supply for core logic.", C3 VCCO0 (power) "Power supply for I/O bank.", C20 VCCO3 (power) "Power supply for I/O bank.", D4 VCC (power) "Power supply for core logic.", D19 VCC (power) "Power supply for core logic.", F1 VCC (power) "Power supply for core logic.", F22 VCC (power) "Power supply for core logic.", G8 VCCO0 (power) "Power supply for I/O bank.", G9 VCCO0 (power) "Power supply for I/O bank.", G10 VCC (power) "Power supply for core logic.", G11 VCC (power) "Power supply for core logic.", G12 VCC (power) "Power supply for core logic.", G13 VCC (power) "Power supply for core logic.", G14 VCCO3 (power) "Power supply for I/O bank.", G15 VCCO3 (power) "Power supply for I/O bank.", H7 VCCO0 (power) "Power supply for I/O bank.", H16 VCCO3 (power) "Power supply for I/O bank.", J2 VCCO0 (power) "Power supply for I/O bank.", J7 VCCO0 (power) "Power supply for I/O bank.", J16 VCCO3 (power) "Power supply for I/O bank.", J21 VCCO3 (power) "Power supply for I/O bank.", K7 VCC (power) "Power supply for core logic.", K16 VCC (power) "Power supply for core logic.", L7 VCC (power) "Power supply for core logic.", L16 VCC (power) "Power supply for core logic.", M1 VCCJ (power) "Power supply for IEEE1149.1 interface.", M7 VCC (power) "Power supply for core logic.", M16 VCC (power) "Power supply for core logic.", M22 VCCP (power) "Power Supply for PLL.", P4 VCCO0 (power) "Power supply for I/O bank.", P19 VCCO3 (power) "Power supply for I/O bank.", R7 VCCO1 (power) "Power supply for I/O bank.", R16 VCCO2 (power) "Power supply for I/O bank.", T3 VCCO1 (power) "Power supply for I/O bank.", T8 VCCO1 (power) "Power supply for I/O bank.", T9 VCC (power) "Power supply for core logic.", T10 VCC (power) "Power supply for core logic.", T11 VCC (power) "Power supply for core logic.", T12 VCC (power) "Power supply for core logic.", T13 VCC (power) "Power supply for core logic.", T14 VCC (power) "Power supply for core logic.", T15 VCCO2 (power) "Power supply for I/O bank.", T20 VCCO2 (power) "Power supply for I/O bank.", U1 VCC (power) "Power supply for core logic.", U22 VCC (power) "Power supply for core logic.", W4 VCC (power) "Power supply for core logic.", W19 VCC (power) "Power supply for core logic.", Y3 VCCO1 (power) "Power supply for I/O bank.", Y20 VCCO2 (power) "Power supply for I/O bank."
part G pins: A1 GND (power) "Ground.", A2 GND (power) "Ground.", A21 GND (power) "Ground.", A22 GND (power) "Ground.", AA1 GND (power) "Ground.", AA22 GND (power) "Ground.", AB1 GND (power) "Ground.", AB22 GND (power) "Ground.", B1 GND (power) "Ground.", B22 GND (power) "Ground.", C8 GND (power) "Ground.", C15 GND (power) "Ground.", D11 GND (power) "Ground.", D12 GND (power) "Ground.", E5 GND (power) "Ground.", E18 GND (power) "Ground.", F6 GND (power) "Ground.", F17 GND (power) "Ground.", G7 GND (power) "Ground.", G16 GND (power) "Ground.", H3 GND (power) "Ground.", H8 GND (power) "Ground.", H9 GND (power) "Ground.", H10 GND (power) "Ground.", H11 GND (power) "Ground.", H12 GND (power) "Ground.", H13 GND (power) "Ground.", H14 GND (power) "Ground.", H15 GND (power) "Ground.", H20 GND (power) "Ground.", J8 GND (power) "Ground.", J9 GND (power) "Ground.", J10 GND (power) "Ground.", J11 GND (power) "Ground.", J12 GND (power) "Ground.", J13 GND (power) "Ground.", J14 GND (power) "Ground.", J15 GND (power) "Ground.", K8 GND (power) "Ground.", K9 GND (power) "Ground.", K10 GND (power) "Ground.", K11 GND (power) "Ground.", K12 GND (power) "Ground.", K13 GND (power) "Ground.", K14 GND (power) "Ground.", K15 GND (power) "Ground.", L4 GND (power) "Ground.", L8 GND (power) "Ground.", L9 GND (power) "Ground.", L10 GND (power) "Ground.", L11 GND (power) "Ground.", L12 GND (power) "Ground.", L13 GND (power) "Ground.", L14 GND (power) "Ground.", L15 GND (power) "Ground.", L19 GND (power) "Ground.", M4 GND (power) "Ground.", M9 GND (power) "Ground.", M10 GND (power) "Ground.", M11 GND (power) "Ground.", M12 GND (power) "Ground.", M13 GND (power) "Ground.", M14 GND (power) "Ground.", M19 GND (power) "Ground.", N1 GND (power) "Ground.", N9 GND (power) "Ground.", N10 GND (power) "Ground.", N11 GND (power) "Ground.", N12 GND (power) "Ground.", N13 GND (power) "Ground.", N14 GND (power) "Ground.", N22 GNDP (power) "Ground for PLL.", P9 GND (power) "Ground.", P10 GND (power) "Ground.", P11 GND (power) "Ground.", P12 GND (power) "Ground.", P13 GND (power) "Ground.", P14 GND (power) "Ground.", R8 GND (power) "Ground.", R9 GND (power) "Ground.", R10 GND (power) "Ground.", R11 GND (power) "Ground.", R12 GND (power) "Ground.", R13 GND (power) "Ground.", R14 GND (power) "Ground.", R15 GND (power) "Ground.", T7 GND (power) "Ground.", T16 GND (power) "Ground.", W11 GND (power) "Ground.", W12 GND (power) "Ground.", Y8 GND (power) "Ground.", Y15 GND (power) "Ground."
part H pins: AA19 NC "Not Connected.", AB2 NC "Not Connected.", AB21 NC "Not Connected.", J6 NC "Not Connected.", J17 NC "Not Connected.", K1 NC "Not Connected.", K2 NC "Not Connected.", K3 NC "Not Connected.", K4 NC "Not Connected.", K5 NC "Not Connected.", K6 NC "Not Connected.", K17 NC "Not Connected.", K18 NC "Not Connected.", K19 NC "Not Connected.", K20 NC "Not Connected.", K21 NC "Not Connected.", K22 NC "Not Connected.", L1 NC "Not Connected.", L2 NC "Not Connected.", L3 NC "Not Connected.", L5 NC "Not Connected.", L6 NC "Not Connected.", L17 NC "Not Connected.", L18 NC "Not Connected.", L20 NC "Not Connected.", L21 NC "Not Connected.", L22 NC "Not Connected.", M2 NC "Not Connected.", M3 NC "Not Connected.", M5 NC "Not Connected.", M6 NC "Not Connected.", M8 NC "Not Connected.", M15 NC "Not Connected.", M17 NC "Not Connected.", M18 NC "Not Connected.", M20 NC "Not Connected.", M21 NC "Not Connected.", N2 NC "Not Connected.", N3 NC "Not Connected.", N4 NC "Not Connected.", N5 NC "Not Connected.", N6 NC "Not Connected.", N8 NC "Not Connected.", N15 NC "Not Connected.", N17 NC "Not Connected.", N18 NC "Not Connected.", N19 NC "Not Connected.", N20 NC "Not Connected.", N21 NC "Not Connected.", P1 NC "Not Connected.", P2 NC "Not Connected.", P5 NC "Not Connected.", P6 NC "Not Connected.", P8 NC "Not Connected.", P15 NC "Not Connected.", P17 NC "Not Connected.", P18 NC "Not Connected.", P21 NC "Not Connected.", P22 NC "Not Connected.", U6 NC "Not Connected.", U17 NC "Not Connected.", V5 NC "Not Connected.", V18 NC "Not Connected.", W6 NC "Not Connected."
part A text: BANK 0
part B text: BANK 1
part C text: BANK 2
part D text: BANK 3

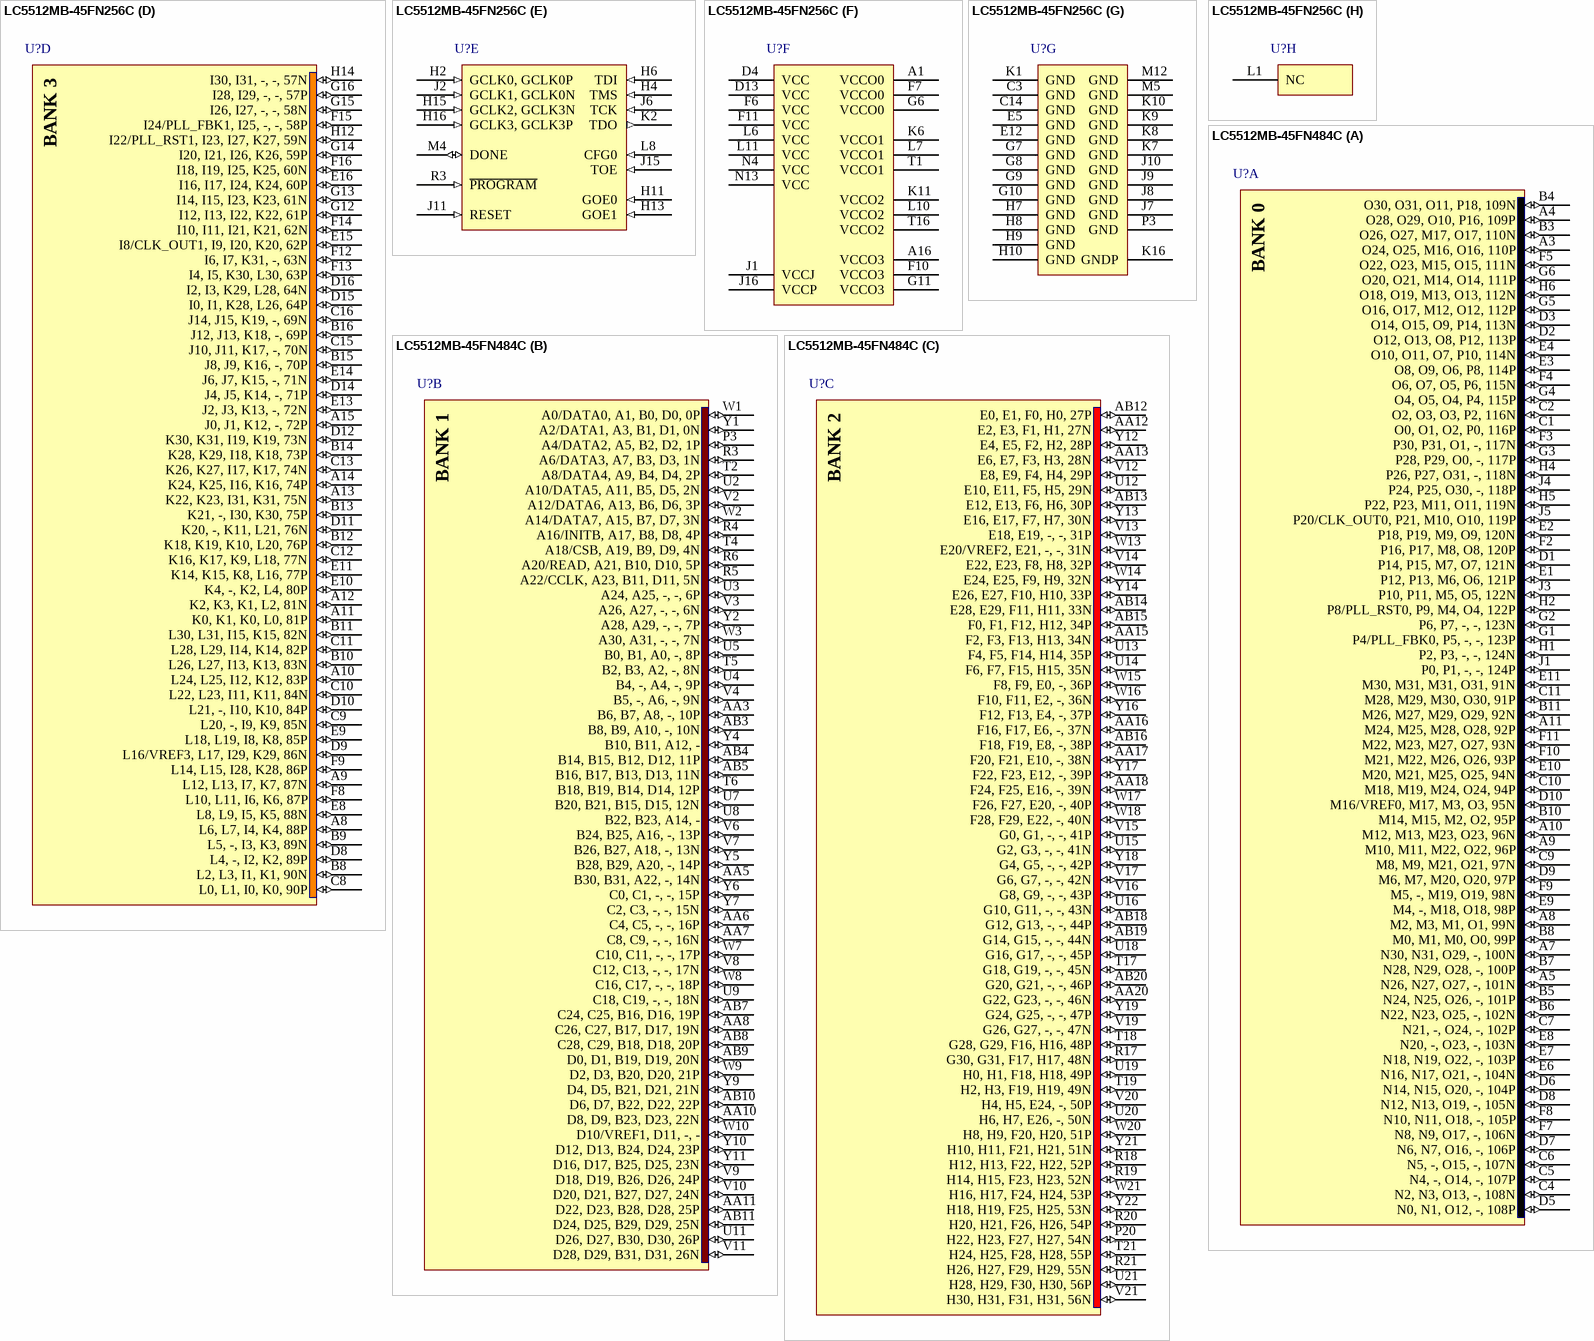
[diagram p27: symbols LC5512MB-45FN256C to LC5512MB-45FN484C]